# Altium footprint library SamacSys.PcbLib: 128 footprints (part 7 of 8)
Each footprint in its own frame and in the unit in brackets; x right, y up, seen from the top. Pads: shape width x height; smd on the part's side, far side on the other; paste and mask are expansions set on the pad; w line width, h text height; cw(c..) or ccw(c..) is an arc to the next point about the centre after c.
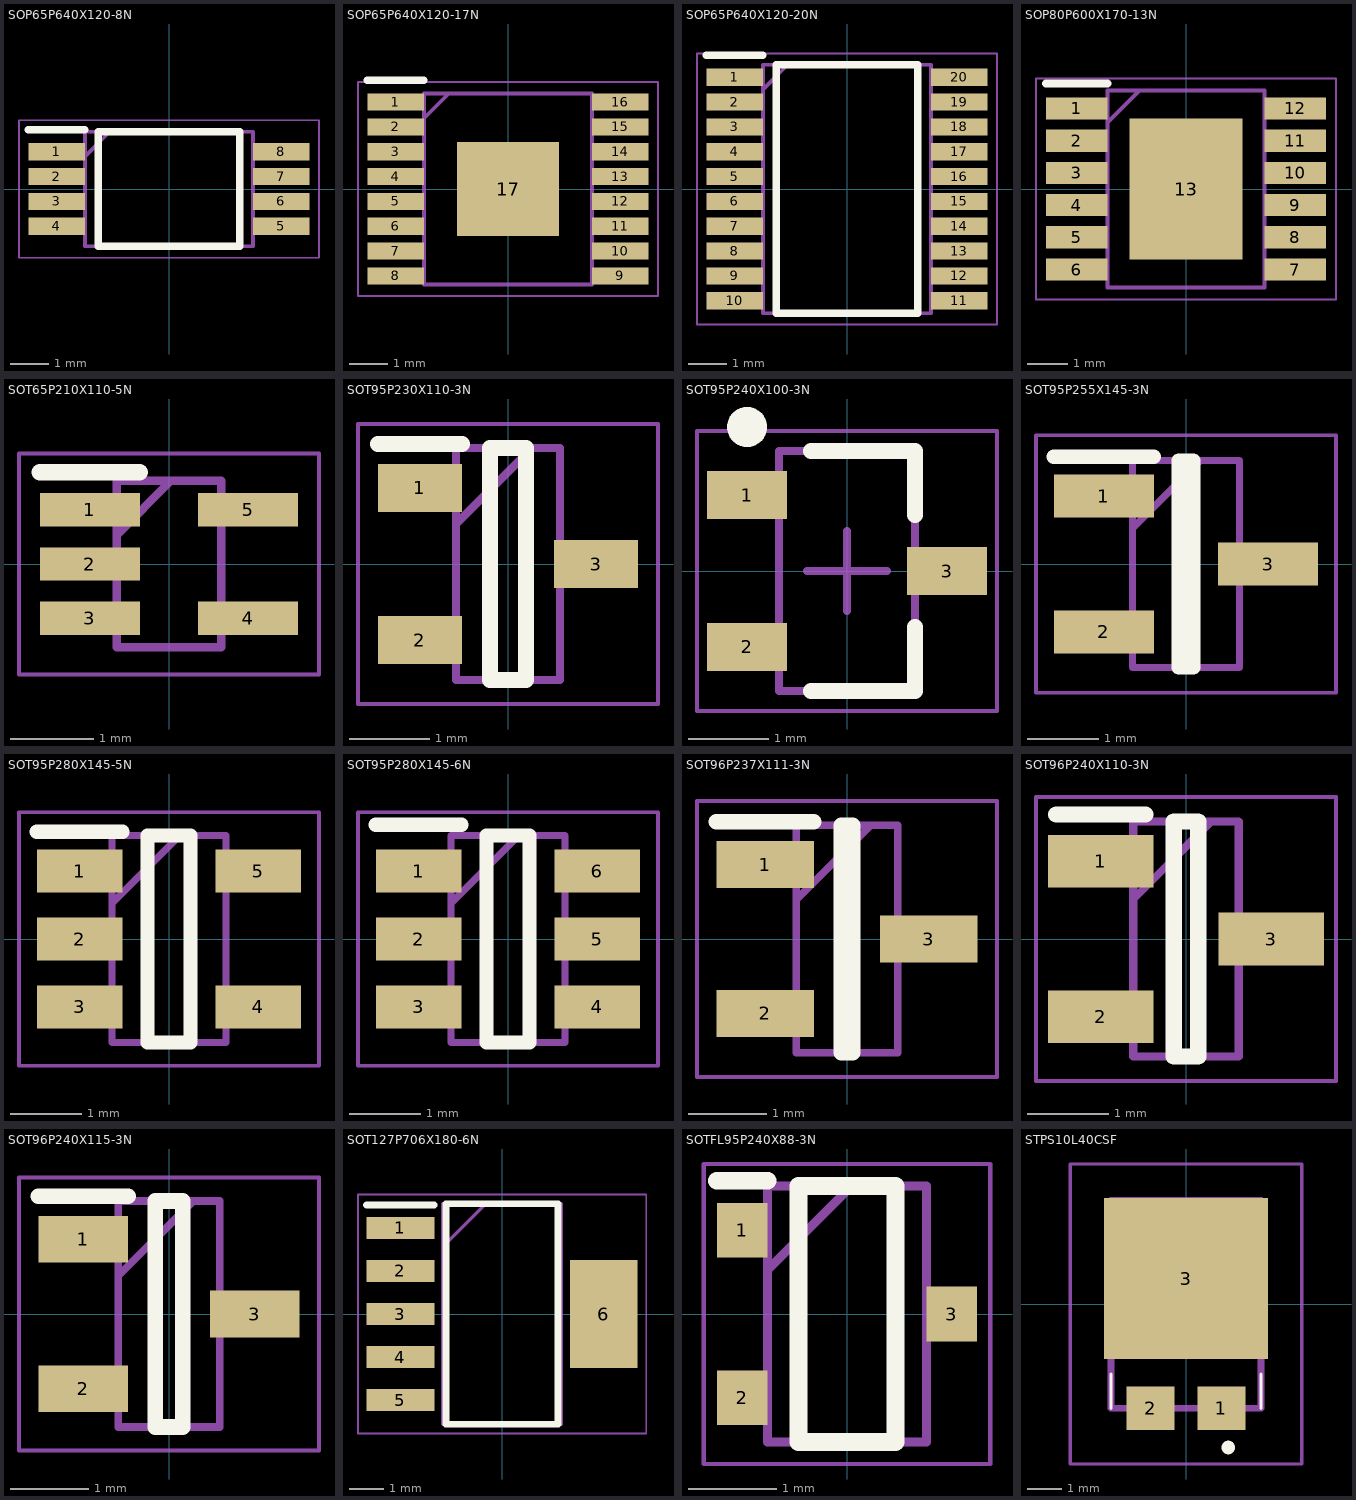
[diagram p6: the footprints below, top view; thin cyan lines are the x and y axes]

## SOP65P640X120-8N [mm]
pads (8):
  rect 1.475x0.45 smd: 1(-2.938,0.975) 2(-2.938,0.325) 3(-2.938,-0.325) 4(-2.938,-0.975) 5(2.938,-0.975) 6(2.938,-0.325) 7(2.938,0.325) 8(2.938,0.975)
Top Overlay:
  lines w0.2: -3.675,1.55 -2.2,1.55 ; -1.85,-1.5 -1.85,1.5 1.85,1.5 1.85,-1.5 -1.85,-1.5
Mechanical 13:
  lines w0.1: -2.2,0.85 -1.55,1.5 ; -2.2,-1.5 -2.2,1.5 2.2,1.5 2.2,-1.5 -2.2,-1.5
Mechanical 15:
  lines w0.05: -3.925,-1.8 -3.925,1.8 3.925,1.8 3.925,-1.8 -3.925,-1.8
3D body "NE555PWRE4.stp": height 1.11, standoff 0.01, extent -3.21,-1.5 3.21,1.5

## SOP65P640X120-17N [mm]
pads (17):
  rect 1.475x0.45 smd: 1(-2.938,2.275) 2(-2.938,1.625) 3(-2.938,0.975) 4(-2.938,0.325) 5(-2.938,-0.325) 6(-2.938,-0.975) 7(-2.938,-1.625) 8(-2.938,-2.275) 9(2.938,-2.275) 10(2.938,-1.625) 11(2.938,-0.975) 12(2.938,-0.325) 13(2.938,0.325) 14(2.938,0.975) 15(2.938,1.625) 16(2.938,2.275)
  rect 2.66x2.46 smd: 17(0,0)
Top Overlay:
  lines w0.2: -3.675,2.85 -2.2,2.85
Mechanical 13:
  lines w0.1: -2.2,1.85 -1.55,2.5 ; -2.2,-2.5 -2.2,2.5 2.2,2.5 2.2,-2.5 -2.2,-2.5
Mechanical 15:
  lines w0.05: -3.925,-2.8 -3.925,2.8 3.925,2.8 3.925,-2.8 -3.925,-2.8
3D body "TPS26600PWPR.stp": height 1.13, standoff 0, extent -3.2,-2.5 3.2,2.5

## SOP65P640X120-20N [mm]
pads (20):
  rect 1.475x0.45 smd: 1(-2.938,2.925) 2(-2.938,2.275) 3(-2.938,1.625) 4(-2.938,0.975) 5(-2.938,0.325) 6(-2.938,-0.325) 7(-2.938,-0.975) 8(-2.938,-1.625) 9(-2.938,-2.275) 10(-2.938,-2.925) 11(2.938,-2.925) 12(2.938,-2.275) 13(2.938,-1.625) 14(2.938,-0.975) 15(2.938,-0.325) 16(2.938,0.325) 17(2.938,0.975) 18(2.938,1.625) 19(2.938,2.275) 20(2.938,2.925)
Top Overlay:
  lines w0.2: -3.675,3.5 -2.2,3.5 ; -1.85,-3.25 1.85,-3.25 1.85,3.25 -1.85,3.25 -1.85,-3.25
Mechanical 13:
  lines w0.1: -2.2,2.6 -1.55,3.25 ; -2.2,-3.25 2.2,-3.25 2.2,3.25 -2.2,3.25 -2.2,-3.25
Mechanical 15:
  lines w0.05: -3.925,-3.55 3.925,-3.55 3.925,3.55 -3.925,3.55 -3.925,-3.55
3D body "STM32C011F6P6.stp": height 0.61, standoff 0, extent -1.499,-1.499 1.499,1.499

## SOP80P600X170-13N [mm]
pads (13):
  rect 1.525x0.55 smd: 1(-2.712,2) 2(-2.712,1.2) 3(-2.712,0.4) 4(-2.712,-0.4) 5(-2.712,-1.2) 6(-2.712,-2) 7(2.712,-2) 8(2.712,-1.2) 9(2.712,-0.4) 10(2.712,0.4) 11(2.712,1.2) 12(2.712,2)
  rect 2.8x3.5 smd: 13(0,0)
Top Overlay:
  lines w0.2: -3.475,2.625 -1.95,2.625
Mechanical 13:
  lines w0.1: -1.95,1.65 -1.15,2.45 ; -1.95,-2.45 -1.95,2.45 1.95,2.45 1.95,-2.45 -1.95,-2.45
Mechanical 15:
  lines w0.05: -3.725,-2.75 -3.725,2.75 3.725,2.75 3.725,-2.75 -3.725,-2.75
3D body "L99VR035PTR.stp": height 1.7, standoff 0, extent -3,-2.45 3,2.45

## SOT65P210X110-5N [mm]
pads (5):
  rect 1.2x0.4 smd: 1(-0.95,0.65) 2(-0.95,0) 3(-0.95,-0.65) 4(0.95,-0.65) 5(0.95,0.65)
Top Overlay:
  lines w0.2: -1.55,1.1 -0.35,1.1
Mechanical 13:
  lines w0.1: -0.625,0.35 0.025,1 ; -0.625,-1 0.625,-1 0.625,1 -0.625,1 -0.625,-1
Mechanical 15:
  lines w0.05: -1.8,-1.325 1.8,-1.325 1.8,1.325 -1.8,1.325 -1.8,-1.325
3D body "OPA333AIDCKR.stp": height 1, standoff 0, extent -1.05,-1 1.05,1

## SOT95P230X110-3N [mm]
pads (3):
  rect 1.05x0.6 smd: 1(-1.1,0.95) 2(-1.1,-0.95) 3(1.1,0)
Top Overlay:
  lines w0.2: -1.625,1.5 -0.575,1.5 ; -0.225,-1.45 -0.225,1.45 0.225,1.45 0.225,-1.45 -0.225,-1.45
Mechanical 13:
  lines w0.1: -0.65,0.5 0.3,1.45 ; -0.65,-1.45 -0.65,1.45 0.65,1.45 0.65,-1.45 -0.65,-1.45
Mechanical 15:
  lines w0.05: -1.875,-1.75 -1.875,1.75 1.875,1.75 1.875,-1.75 -1.875,-1.75
3D body "2N7002P,235.stp": height 1.1, standoff 0, extent -1.15,-1.45 1.15,1.45

## SOT95P240X100-3N [mm] "SOT23, 3-Leads, Body 2.90x2.40mm, Pitch 0.95mm, IPC Medium Density"
height 1
pads (3):
  rect 1x0.6 smd: 1(-1.25,0.95) 2(-1.25,-0.95) 3(1.25,0)
Top Overlay:
  circle w0.25: c-1.25,1.8 r0.125
  lines w0.2: -0.45,-1.5 0.85,-1.5 0.85,-0.7 ; -0.45,1.5 0.85,1.5 0.85,0.7
Mechanical 13:
  lines w0.1: -0.85,-1.5 -0.85,1.5 0.85,1.5 0.85,-1.5 -0.85,-1.5
Mechanical 15:
  lines w0.05: -1.875,-1.75 -1.875,1.75 1.875,1.75 1.875,-1.75 -1.875,-1.75
  lines w0.1: -0.5,0 0.5,0 ; 0,-0.5 0,0.5
3D body: height 1, standoff 0.05, extent -0.85,-1.5 0.85,1.5

## SOT95P255X145-3N [mm]
pads (3):
  rect 1.4x0.6 smd: 1(-1.15,0.95) 2(-1.15,-0.95) 3(1.15,0)
Top Overlay:
  lines w0.2: -1.85,1.5 -0.45,1.5 ; -0.1,-1.45 -0.1,1.45 0.1,1.45 0.1,-1.45 -0.1,-1.45
Mechanical 13:
  lines w0.1: -0.75,0.5 0.2,1.45 ; -0.75,-1.45 -0.75,1.45 0.75,1.45 0.75,-1.45 -0.75,-1.45
Mechanical 15:
  lines w0.05: -2.1,-1.8 -2.1,1.8 2.1,1.8 2.1,-1.8 -2.1,-1.8
3D body "MCP1703AT-5002E_CB.stp": height 1.45, standoff 0, extent -1.275,-1.45 1.275,1.45

## SOT95P280X145-5N [mm]
pads (5):
  rect 1.2x0.6 smd: 1(-1.25,0.95) 2(-1.25,0) 3(-1.25,-0.95) 4(1.25,-0.95) 5(1.25,0.95)
Top Overlay:
  lines w0.2: -1.85,1.5 -0.65,1.5 ; -0.3,-1.45 -0.3,1.45 0.3,1.45 0.3,-1.45 -0.3,-1.45
Mechanical 13:
  lines w0.1: -0.8,0.5 0.15,1.45 ; -0.8,-1.45 -0.8,1.45 0.8,1.45 0.8,-1.45 -0.8,-1.45
Mechanical 15:
  lines w0.05: -2.1,-1.775 -2.1,1.775 2.1,1.775 2.1,-1.775 -2.1,-1.775
3D body "SN74LVC1G04MDBVREP.stp": height 1.2, standoff 0, extent -1.4,-1.45 1.4,1.45

## SOT95P280X145-6N [mm]
pads (6):
  rect 1.2x0.6 smd: 1(-1.25,0.95) 2(-1.25,0) 3(-1.25,-0.95) 4(1.25,-0.95) 5(1.25,0) 6(1.25,0.95)
Top Overlay:
  lines w0.2: -1.85,1.6 -0.65,1.6 ; -0.3,-1.45 -0.3,1.45 0.3,1.45 0.3,-1.45 -0.3,-1.45
Mechanical 13:
  lines w0.1: -0.8,0.5 0.15,1.45 ; -0.8,-1.45 -0.8,1.45 0.8,1.45 0.8,-1.45 -0.8,-1.45
Mechanical 15:
  lines w0.05: -2.1,-1.775 -2.1,1.775 2.1,1.775 2.1,-1.775 -2.1,-1.775
3D body "SN74LVC2G17DBVR.stp": height 1.45, standoff 0, extent -1.4,-1.45 1.4,1.45

## SOT96P237X111-3N [mm]
pads (3):
  rect 1.25x0.6 smd: 1(-1.05,0.955) 2(-1.05,-0.955) 3(1.05,0)
Top Overlay:
  lines w0.2: -1.675,1.505 -0.425,1.505 ; -0.075,-1.46 -0.075,1.46 0.075,1.46 0.075,-1.46 -0.075,-1.46
Mechanical 13:
  lines w0.1: -0.65,0.505 0.305,1.46 ; -0.65,-1.46 -0.65,1.46 0.65,1.46 0.65,-1.46 -0.65,-1.46
Mechanical 15:
  lines w0.05: -1.925,-1.77 -1.925,1.77 1.925,1.77 1.925,-1.77 -1.925,-1.77
3D body "MMBT2222ALT1G.stp": height 1.11, standoff 0, extent -1.185,-1.46 1.185,1.46

## SOT96P240X110-3N [mm]
pads (3):
  rect 1.3x0.65 smd: 1(-1.05,0.96) 2(-1.05,-0.96) 3(1.05,0)
Top Overlay:
  lines w0.2: -1.6,1.535 -0.5,1.535 ; -0.15,-1.45 -0.15,1.45 0.15,1.45 0.15,-1.45 -0.15,-1.45
Mechanical 13:
  lines w0.1: -0.65,0.49 0.31,1.45 ; -0.65,-1.45 -0.65,1.45 0.65,1.45 0.65,-1.45 -0.65,-1.45
Mechanical 15:
  lines w0.05: -1.85,-1.75 -1.85,1.75 1.85,1.75 1.85,-1.75 -1.85,-1.75
3D body "DMN61D8LQ-13.stp": height 1.1, standoff 0, extent -1.2,-1.45 1.2,1.45

## SOT96P240X115-3N [mm]
pads (3):
  rect 1.15x0.6 smd: 1(-1.1,0.96) 2(-1.1,-0.96) 3(1.1,0)
Top Overlay:
  lines w0.2: -1.675,1.51 -0.525,1.51 ; -0.175,-1.45 -0.175,1.45 0.175,1.45 0.175,-1.45 -0.175,-1.45
Mechanical 13:
  lines w0.1: -0.65,0.49 0.31,1.45 ; -0.65,-1.45 -0.65,1.45 0.65,1.45 0.65,-1.45 -0.65,-1.45
Mechanical 15:
  lines w0.05: -1.925,-1.75 -1.925,1.75 1.925,1.75 1.925,-1.75 -1.925,-1.75
3D body "2N7002K-7.stp": height 1.1, standoff 0, extent -1.326,-1.5 1.326,1.5

## SOT127P706X180-6N [mm]
pads (6):
  rect 2x0.65 smd: 1(-3,2.54) 2(-3,1.27) 3(-3,0) 4(-3,-1.27) 5(-3,-2.54)
  rect 2x3.2 smd: 6(3,0)
Top Overlay:
  lines w0.2: -4,3.215 -2,3.215 ; -1.65,-3.25 1.65,-3.25 1.65,3.25 -1.65,3.25 -1.65,-3.25
Mechanical 13:
  lines w0.1: -1.75,1.98 -0.48,3.25 ; -1.75,-3.25 1.75,-3.25 1.75,3.25 -1.75,3.25 -1.75,-3.25
Mechanical 15:
  lines w0.05: -4.25,-3.525 4.25,-3.525 4.25,3.525 -4.25,3.525 -4.25,-3.525
3D body "TL1963A-33DCQT.stp": height 1.66, standoff 0, extent -3.554,-3.25 3.554,3.25

## SOTFL95P240X88-3N [mm]
pads (3):
  rect 0.575x0.62 smd: 1(-1.188,0.95) 2(-1.188,-0.95) 3(1.188,0)
Top Overlay:
  lines w0.2: -1.475,1.51 -0.9,1.51 ; -0.55,-1.45 -0.55,1.45 0.55,1.45 0.55,-1.45 -0.55,-1.45
Mechanical 13:
  lines w0.1: -0.9,0.5 0.05,1.45 ; -0.9,-1.45 -0.9,1.45 0.9,1.45 0.9,-1.45 -0.9,-1.45
Mechanical 15:
  lines w0.05: -1.625,-1.7 -1.625,1.7 1.625,1.7 1.625,-1.7 -1.625,-1.7
3D body "SSM3K357R,LF.stp": height 0.88, standoff 0, extent -1.2,-1.45 1.2,1.45

## STPS10L40CSF [mm]
pads (3):
  rect 1.4x1.27 smd: 1(1.04,-3.05) 2(-1.04,-3.05)
  rect 4.8x4.72 smd: 3(0,0.755)
Top Overlay:
  lines w0.1: -2.2,-3.05 -2.2,-2.05 ; 2.2,-3.05 2.2,-2.05
  lines w0.2: 1.14,-4.2 ccw(c1.24,-4.2) 1.34,-4.2 ccw(c1.24,-4.2) 1.14,-4.2
Mechanical 13:
  lines w0.2: -2.2,-3.05 -2.2,3.05 2.2,3.05 2.2,-3.05 -2.2,-3.05
Mechanical 15:
  lines w0.1: -3.4,-4.685 -3.4,4.115 3.4,4.115 3.4,-4.685 -3.4,-4.685
3D body "STPS5S100SFY.stp": height 1.1, standoff 0, extent -2.3,-3.54 2.3,2.96